# Altium integrated library LM2596_module.IntLib: 1 symbol
Pins are listed as number, name and electrical type; pins without a type are passive.

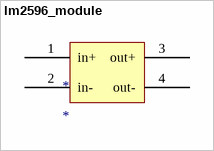
[diagram p0: symbol lm2596_module]

## lm2596_module
designator *
footprint LM2596_module
pins: 1 in+, 2 in-, 3 out+, 4 out-